# Altium footprint library STM32F103ZET6.PcbLib: 1 footprints
Each footprint in its own frame and in the unit in brackets; x right, y up, seen from the top. Pads: shape width x height; smd on the part's side, far side on the other; paste and mask are expansions set on the pad; w line width, h text height; cw(c..) or ccw(c..) is an arc to the next point about the centre after c.
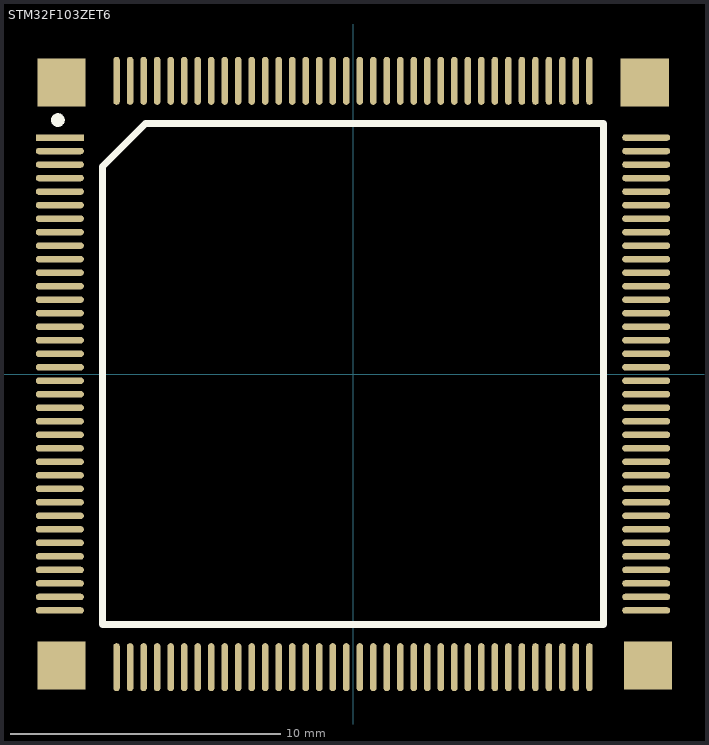
[diagram p0: the footprint, top view; thin cyan lines are the x and y axes]

## STM32F103ZET6 [mil] "cortext-M3"
pads (148):
  rect 70x9.5 smd: 1(-427.16,344.49)
  oval 70x9.5 smd: 2(-427.16,324.8) 3(-427.16,305.12) 4(-427.16,285.43) 5(-427.16,265.75) 6(-427.16,246.06) 7(-427.16,226.38) 8(-427.16,206.69) 9(-427.16,187.01) 10(-427.16,167.32) 11(-427.16,147.64) 12(-427.16,127.95) 13(-427.16,108.27) 14(-427.16,88.58) 15(-427.16,68.9) 16(-427.16,49.21) 17(-427.16,29.53) 18(-427.16,9.84) 19(-427.16,-9.84) 20(-427.16,-29.53) 21(-427.16,-49.21) 22(-427.16,-68.9) 23(-427.16,-88.58) 24(-427.16,-108.27) 25(-427.16,-127.95) 26(-427.16,-147.64) 27(-427.16,-167.32) 28(-427.16,-187.01) 29(-427.16,-206.69) 30(-427.16,-226.38) 31(-427.16,-246.06) 32(-427.16,-265.75) 33(-427.16,-285.43) 34(-427.16,-305.12) 35(-427.16,-324.8) 36(-427.16,-344.49) 73(427.16,-344.49) 74(427.16,-324.8) 75(427.16,-305.12) 76(427.16,-285.43) 77(427.16,-265.75) 78(427.16,-246.06) 79(427.16,-226.38) 80(427.16,-206.69) 81(427.16,-187.01) 82(427.16,-167.32) 83(427.16,-147.64) 84(427.16,-127.95) 85(427.16,-108.27) 86(427.16,-88.58) 87(427.16,-68.9) 88(427.16,-49.21) 89(427.16,-29.53) 90(427.16,-9.84) 91(427.16,9.84) 92(427.16,29.53) 93(427.16,49.21) 94(427.16,68.9) 95(427.16,88.58) 96(427.16,108.27) 97(427.16,127.95) 98(427.16,147.64) 99(427.16,167.32) 100(427.16,187.01) 101(427.16,206.69) 102(427.16,226.38) 103(427.16,246.06) 104(427.16,265.75) 105(427.16,285.43) 106(427.16,305.12) 107(427.16,324.8) 108(427.16,344.49)
  oval 9.5x70 smd: 37(-344.49,-427.16) 38(-324.8,-427.16) 39(-305.12,-427.16) 40(-285.43,-427.16) 41(-265.75,-427.16) 42(-246.06,-427.16) 43(-226.38,-427.16) 44(-206.69,-427.16) 45(-187.01,-427.16) 46(-167.32,-427.16) 47(-147.64,-427.16) 48(-127.95,-427.16) 49(-108.27,-427.16) 50(-88.58,-427.16) 51(-68.9,-427.16) 52(-49.21,-427.16) 53(-29.53,-427.16) 54(-9.84,-427.16) 55(9.84,-427.16) 56(29.53,-427.16) 57(49.21,-427.16) 58(68.9,-427.16) 59(88.58,-427.16) 60(108.27,-427.16) 61(127.95,-427.16) 62(147.64,-427.16) 63(167.32,-427.16) 64(187.01,-427.16) 65(206.69,-427.16) 66(226.38,-427.16) 67(246.06,-427.16) 68(265.75,-427.16) 69(285.43,-427.16) 70(305.12,-427.16) 71(324.8,-427.16) 72(344.49,-427.16) 109(344.49,427.16) 110(324.8,427.16) 111(305.12,427.16) 112(285.43,427.16) 113(265.75,427.16) 114(246.06,427.16) 115(226.38,427.16) 116(206.69,427.16) 117(187.01,427.16) 118(167.32,427.16) 119(147.64,427.16) 120(127.95,427.16) 121(108.27,427.16) 122(88.58,427.16) 123(68.9,427.16) 124(49.21,427.16) 125(29.53,427.16) 126(9.84,427.16) 127(-9.84,427.16) 128(-29.53,427.16) 129(-49.21,427.16) 130(-68.9,427.16) 131(-88.58,427.16) 132(-108.27,427.16) 133(-127.95,427.16) 134(-147.64,427.16) 135(-167.32,427.16) 136(-187.01,427.16) 137(-206.69,427.16) 138(-226.38,427.16) 139(-246.06,427.16) 140(-265.75,427.16) 141(-285.43,427.16) 142(-305.12,427.16) 143(-324.8,427.16) 144(-344.49,427.16)
  rect 70x70 smd: ""(-425,-425) ""(-425,425) ""(425,425) ""(430,-425)
Top Overlay:
  circle w10: c-430,370 r5
  lines w10: -364.76,-364.76 -364.76,302.36 -302.36,364.76 364.76,364.76 364.76,-364.76 -364.76,-364.76